# Altium footprint library Fuse-DIP-p11.6mm.PcbLib: 1 footprints
Each footprint in its own frame and in the unit in brackets; x right, y up, seen from the top. Pads: shape width x height; smd on the part's side, far side on the other; paste and mask are expansions set on the pad; w line width, h text height; cw(c..) or ccw(c..) is an arc to the next point about the centre after c.
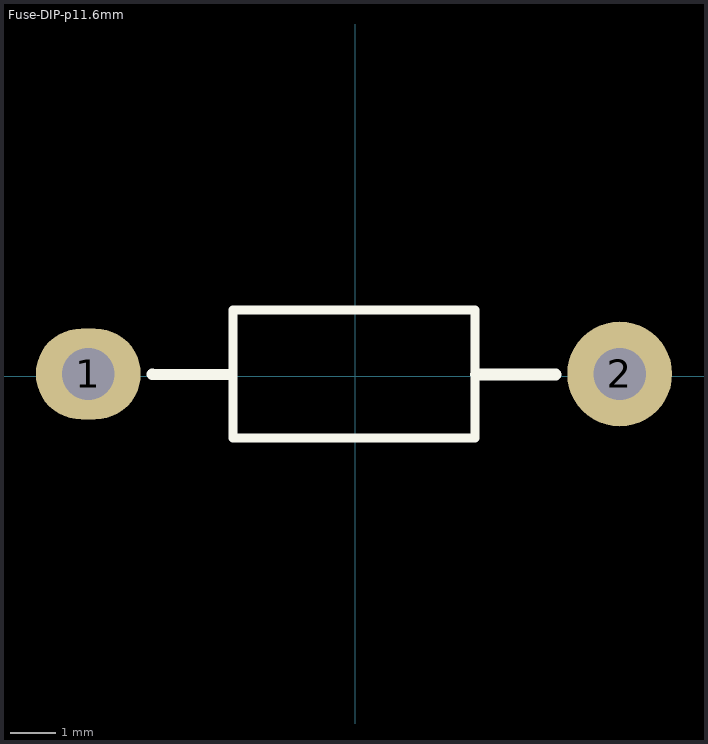
[diagram p0: the footprint, top view; thin cyan lines are the x and y axes]

## Fuse-DIP-p11.6mm [mm]
pads (2):
  oval 2.3x2 hole 1.15: 1(-5.849,0.054)
  round 2.3 hole 1.15: 2(5.801,0.054)
Top Overlay:
  lines w0.2: -2.674,-1.346 -2.674,1.454 2.626,1.454 2.626,-1.346 -2.674,-1.346
  lines w0.254: -4.448,0.05 -2.722,0.04 ; 2.649,0.043 4.402,0.043
3D body "axial_resistor_L7.8_D2.8_PinD0.6_Pitch11.8_water_green.step": height 3.4, standoff -2.4, extent -6.3,-1.347 6.1,1.447